# Altium footprint library TO92-AH9247.PcbLib: 1 footprints
Each footprint in its own frame and in the unit in brackets; x right, y up, seen from the top. Pads: shape width x height; smd on the part's side, far side on the other; paste and mask are expansions set on the pad; w line width, h text height; cw(c..) or ccw(c..) is an arc to the next point about the centre after c.
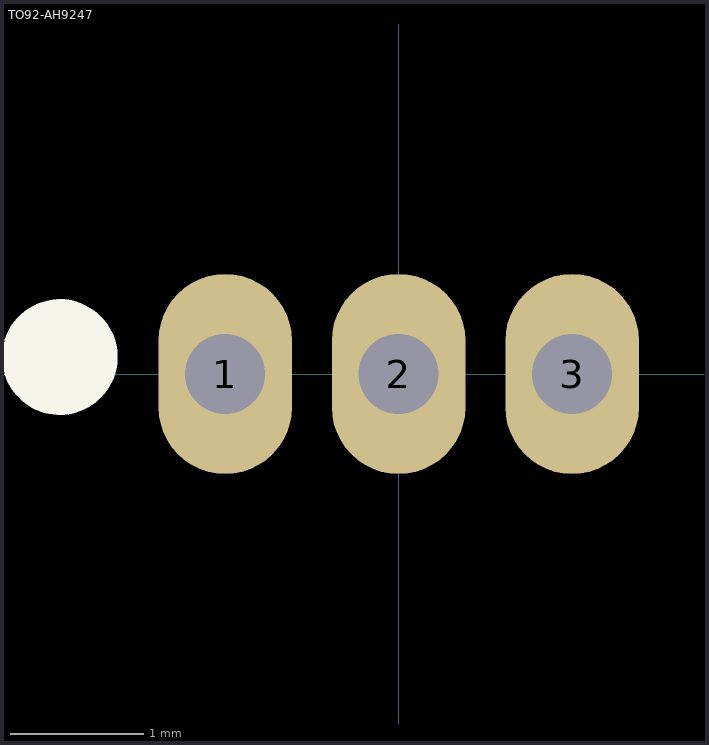
[diagram p0: the footprint, top view; thin cyan lines are the x and y axes]

## TO92-AH9247 [mm]
pads (3):
  oval 1x1.5 hole 0.6: 1(-1.3,0) 2(0,0) 3(1.3,0)
Top Overlay:
  circle w0.508: c-2.54,0.127 r0.18